# Altium integrated library ISSI SRAM Synchronous SRAM No-Wait(ZBT).IntLib: 1246 symbols (part 123 of 152)
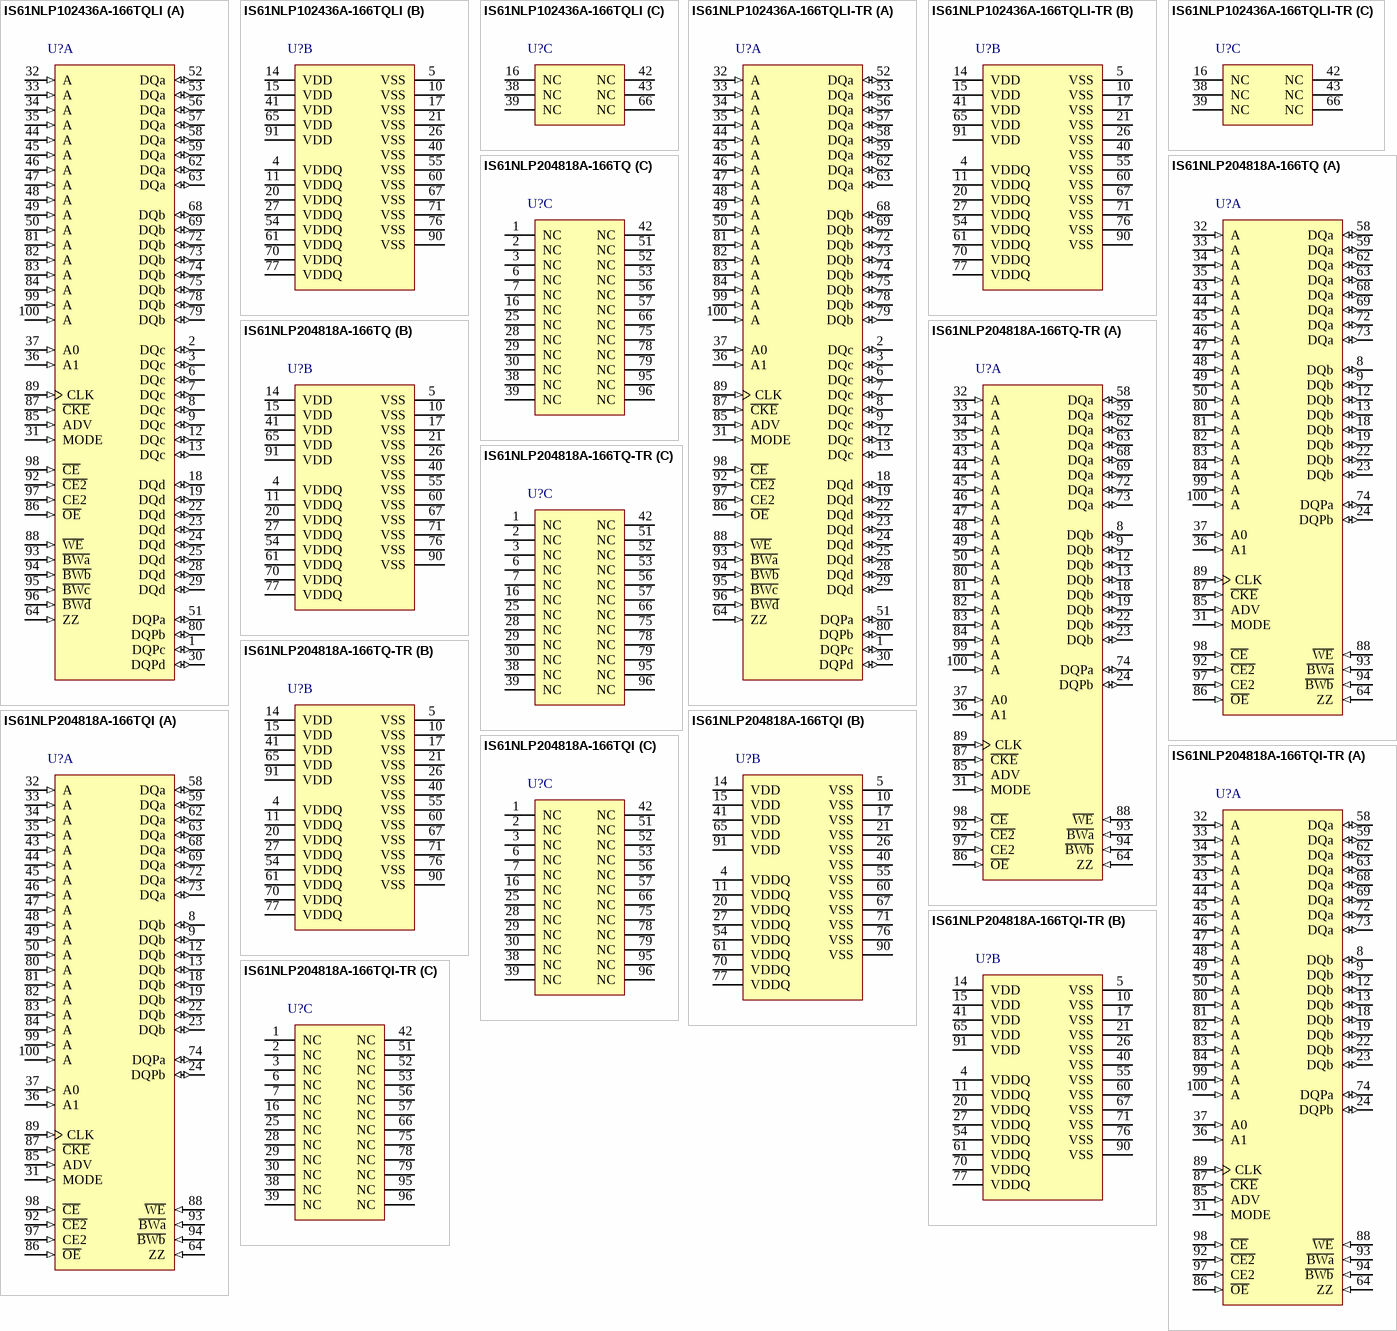
[diagram p400: symbols IS61NLP102436A-166TQLI to IS61NLP204818A-166TQI-TR]

## IS61NLP102436A-166TQLI-TR
designator U?
36 M Pipeline 'No Wait' State Bus SRAM, 1 M x 36, -40 to 85 degC, 100-Pin QFP (TQFP-100), Pb-Free; Manufacturer: Integrated Silicon Solution Inc (ISSI); PartNumber: IS61NLP102436A-166TQLI-TR; Density: 36M; Organization: 1Mx36; Packing: Tape & Reel; Vcc: 3.3 V; VccQ: 2.5 / 3.3 V; DatasheetVersion: Rev. B; PackageVersion: Rev. F, 09/2009; PackageReference: TQFP-100; PackageDescription: 100-Pin 20 x 14 mm LQFP, Pitch 0.65 mm; Supplier 1: Digi-Key; Supplier Part Number 1: IS61NLP102436A-166TQLI-TR-ND; Supplier 2: Mouser; Supplier Part Number 2: 87061NL102436A6TQLIT; RoHS: Pb-Free; Mounting Technology: Surface Mount; ComponentLink1Description: Manufacturer URL; ComponentLink1URL: http://www.issi.com/US/index.shtml; ComponentLink2Description: Datasheet; ComponentLink2URL: http://www.issi.com/WW/pdf/61NLP_NVP102436A_204818A.pdf; ComponentLink3Description: Package Specification; ComponentLink3URL: http://www.issi.com/WW/pdf/61VPS_LPS25636A_51218A.pdf
footprint ISSI-TQFP-100-20000X14000DE_N (QFP, 100-Leads, Body 20x14mm, Pitch 0.65mm, IPC Medium Density)
part A pins: 1 DQPc (io) "Parity Data I/O", 2 DQc (io) "Synchronous Data Input/Output", 3 DQc (io) "Synchronous Data Input/Output", 6 DQc (io) "Synchronous Data Input/Output", 7 DQc (io) "Synchronous Data Input/Output", 8 DQc (io) "Synchronous Data Input/Output", 9 DQc (io) "Synchronous Data Input/Output", 12 DQc (io) "Synchronous Data Input/Output", 13 DQc (io) "Synchronous Data Input/Output", 18 DQd (io) "Synchronous Data Input/Output", 19 DQd (io) "Synchronous Data Input/Output", 22 DQd (io) "Synchronous Data Input/Output", 23 DQd (io) "Synchronous Data Input/Output", 24 DQd (io) "Synchronous Data Input/Output", 25 DQd (io) "Synchronous Data Input/Output", 28 DQd (io) "Synchronous Data Input/Output", 29 DQd (io) "Synchronous Data Input/Output", 30 DQPd (io) "Parity Data I/O", 31 MODE (in) "Burst Sequence Selection", 32 A (in) "Synchronous Address Input", 33 A (in) "Synchronous Address Input", 34 A (in) "Synchronous Address Input", 35 A (in) "Synchronous Address Input", 36 A1 (in) "Synchronous Address Input. These pins must tied to the two LSBs of the address bus.", 37 A0 (in) "Synchronous Address Input. These pins must tied to the two LSBs of the address bus.", 44 A (in) "Synchronous Address Input", 45 A (in) "Synchronous Address Input", 46 A (in) "Synchronous Address Input", 47 A (in) "Synchronous Address Input", 48 A (in) "Synchronous Address Input", 49 A (in) "Synchronous Address Input", 50 A (in) "Synchronous Address Input", 51 DQPa (io) "Parity Data I/O", 52 DQa (io) "Synchronous Data Input/Output", 53 DQa (io) "Synchronous Data Input/Output", 56 DQa (io) "Synchronous Data Input/Output", 57 DQa (io) "Synchronous Data Input/Output", 58 DQa (io) "Synchronous Data Input/Output", 59 DQa (io) "Synchronous Data Input/Output", 62 DQa (io) "Synchronous Data Input/Output", 63 DQa (io) "Synchronous Data Input/Output", 64 ZZ (in) "Snooze Enable", 68 DQb (io) "Synchronous Data Input/Output", 69 DQb (io) "Synchronous Data Input/Output", 72 DQb (io) "Synchronous Data Input/Output", 73 DQb (io) "Synchronous Data Input/Output", 74 DQb (io) "Synchronous Data Input/Output", 75 DQb (io) "Synchronous Data Input/Output", 78 DQb (io) "Synchronous Data Input/Output", 79 DQb (io) "Synchronous Data Input/Output", 80 DQPb (io) "Parity Data I/O", 81 A (in) "Synchronous Address Input", 82 A (in) "Synchronous Address Input", 83 A (in) "Synchronous Address Input", 84 A (in) "Synchronous Address Input", 85 ADV (in) "Synchronous Burst Address Advance", 86 ~{OE} (in) "Output Enable", 87 ~{CKE} (in) "Clock Enable", 88 ~{WE} (in) "Write Enable", 89 CLK (in) "Synchronous Clock", 92 ~{CE2} (in) "Synchronous Chip Enable", 93 ~{BWa} (in) "Synchronous Byte Write Enable", 94 ~{BWb} (in) "Synchronous Byte Write Enable", 95 ~{BWc} (in) "Synchronous Byte Write Enable", 96 ~{BWd} (in) "Synchronous Byte Write Enable", 97 CE2 (in) "Synchronous Chip Enable", 98 ~{CE} (in) "Synchronous Chip Enable", 99 A (in) "Synchronous Address Input", 100 A (in) "Synchronous Address Input"
part B pins: 4 VDDQ (power) "Isolated Output Buffer Supply: +3.3V/2.5V", 5 VSS (power) "Ground for output Buffer", 10 VSS (power) "Ground for output Buffer", 11 VDDQ (power) "Isolated Output Buffer Supply: +3.3V/2.5V", 14 VDD (power) "+3.3V/2.5V Power Supply", 15 VDD (power) "+3.3V/2.5V Power Supply", 17 VSS (power) "Ground for output Buffer", 20 VDDQ (power) "Isolated Output Buffer Supply: +3.3V/2.5V", 21 VSS (power) "Ground for output Buffer", 26 VSS (power) "Ground for output Buffer", 27 VDDQ (power) "Isolated Output Buffer Supply: +3.3V/2.5V", 40 VSS (power) "Ground for output Buffer", 41 VDD (power) "+3.3V/2.5V Power Supply", 54 VDDQ (power) "Isolated Output Buffer Supply: +3.3V/2.5V", 55 VSS (power) "Ground for output Buffer", 60 VSS (power) "Ground for output Buffer", 61 VDDQ (power) "Isolated Output Buffer Supply: +3.3V/2.5V", 65 VDD (power) "+3.3V/2.5V Power Supply", 67 VSS (power) "Ground for output Buffer", 70 VDDQ (power) "Isolated Output Buffer Supply: +3.3V/2.5V", 71 VSS (power) "Ground for output Buffer", 76 VSS (power) "Ground for output Buffer", 77 VDDQ (power) "Isolated Output Buffer Supply: +3.3V/2.5V", 90 VSS (power) "Ground for output Buffer", 91 VDD (power) "+3.3V/2.5V Power Supply"
part C pins: 16 NC "Not Connected", 38 NC "Not Connected", 39 NC "Not Connected", 42 NC "Not Connected", 43 NC "Not Connected", 66 NC "Not Connected"